# EAGLE library part ENC (library misc)
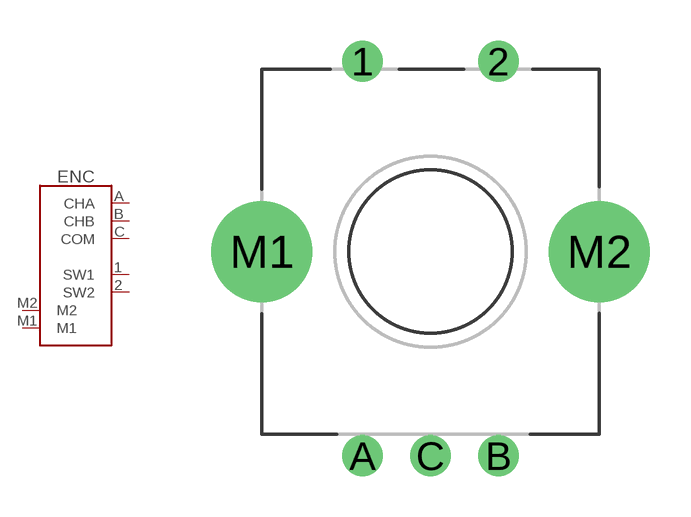
[diagram p44: symbol with the pads of PEC12R-4XXXF-SXXXX; footprint PEC12R-4XXXF-SXXXX]

Designator prefix ENC

## ENC-PEC12R-4XXXF-SXXXX  [PEC12R-4XXXF-SXXXX]
1  SW1  pas
2  SW2  pas
A  CHA  out
B  CHB  out
C  COM  pas
M1  M1  pas
M2  M2  pas

## Footprint PEC12R-4XXXF-SXXXX (pad centres in mm)
BOURNS PEC12R-4xxxF-Sxxxx (Horizontal Mount - Axial PC Pin/No Bushing, Push Momentary Switch) encoder
drill 0.991: 1 -2.5,7; 2 2.5,7; A -2.5,-7.5; B 2.5,-7.5; C 0,-7.5
drill 2.7: M1 -6.198,0; M2 6.198,0